# EAGLE library part M41T00SM6E (library ST Microelectronics)
Serial access real-time clock
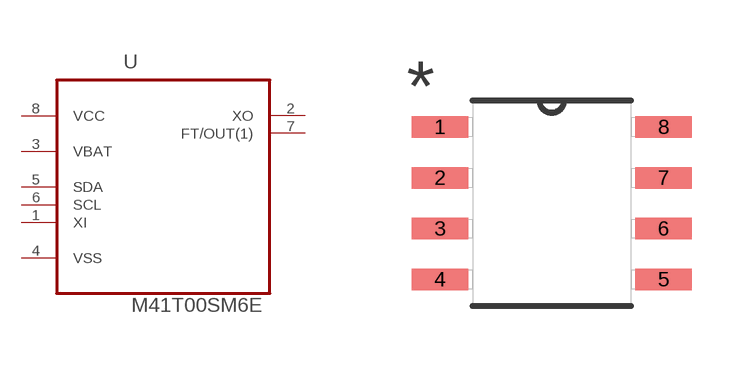
[diagram p182: symbol with the pads of SOIC127P600X175-8N; footprint SOIC127P600X175-8N]

Designator prefix U

## M41T00SM6E (MPN: M41T00SM6E; OC_FARNELL: 1224439; OC_NEWARK: 56P9307; PACKAGE: SOIC-8; SUPPLIER: STMICROELECTRONICS)  [SOIC127P600X175-8N]
1  XI  in
2  XO  out
3  VBAT  pwr
4  VSS  pas
5  SDA
6  SCL  in
7  FT/OUT(1)  out
8  VCC  pwr

## Footprint SOIC127P600X175-8N (pad centres in mm)
smd 1.422 x 0.533: 1 -2.794,1.905; 2 -2.794,0.635; 3 -2.794,-0.635; 4 -2.794,-1.905; 5 2.794,-1.905; 6 2.794,-0.635; 7 2.794,0.635; 8 2.794,1.905